# Altium footprint library 8channel.PcbLib: 84 footprints (part 6 of 6)
Each footprint in its own frame and in the unit in brackets; x right, y up, seen from the top. Pads: shape width x height; smd on the part's side, far side on the other; paste and mask are expansions set on the pad; w line width, h text height; cw(c..) or ccw(c..) is an arc to the next point about the centre after c.
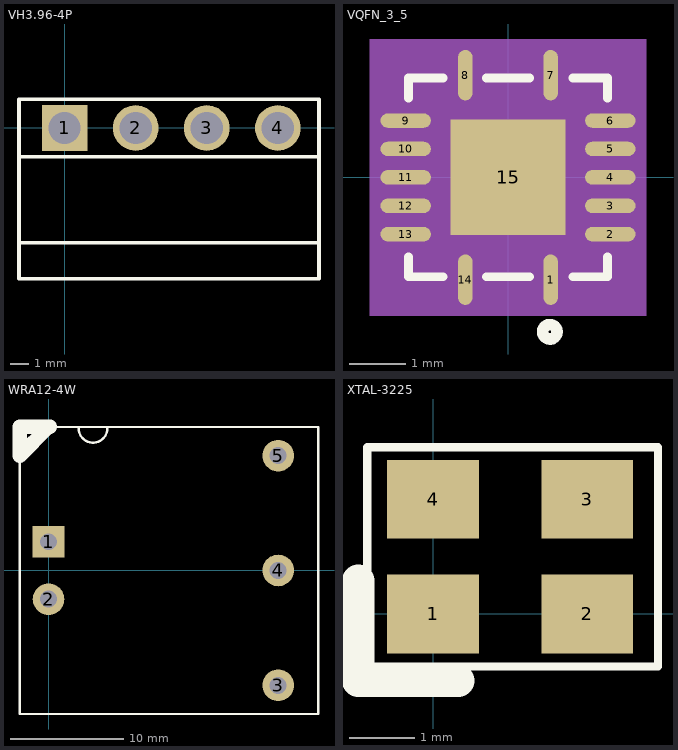
[diagram p5: the footprints below, top view; thin cyan lines are the x and y axes]

## VH3.96-4P [mm]
pads (4):
  rect 2.54x2.54 hole 1.8: 1(0,0)
  round 2.54 hole 1.8: 2(3.96,0) 3(7.92,0) 4(11.88,0)
Top Overlay:
  lines w0.203: -2.54,-6.4 14.173,-6.4 ; -2.54,-1.609 14.173,-1.609 ; -2.54,-8.4 -2.54,1.6 14.173,1.6 14.173,-8.4 -2.54,-8.4
  text ".Designator" at 3.789,0.086 h0.76
Mechanical 10:
  text "1" at -1.295,-0.432 h0.76
  text "2" at 1.245,-0.432 h0.76

## VQFN_3_5 [mil] "VQFN_3_5"
height 220
pads (15):
  oval 10x35 smd: 1(29.53,-70.87) 7(29.53,70.87) 8(-29.53,70.87) 14(-29.53,-70.87)
  oval 35x10 smd: 2(70.87,-39.37) 3(70.87,-19.69) 4(70.87,0) 5(70.87,19.69) 6(70.87,39.37) 9(-70.87,39.37) 10(-70.87,19.69) 11(-70.87,0) 12(-70.87,-19.69) 13(-70.87,-39.37)
  rect 80x80 smd: 15(0,0)
Top Overlay:
  circle w8: c29,-107 r5
  lines w6: -68.9,-55 -68.9,-68.9 -45,-68.9 ; -68.9,55 -68.9,68.9 -45,68.9 ; -15,-68.9 15,-68.9 ; -15,68.9 15,68.9 ; 45,-68.9 68.9,-68.9 68.9,-55 ; 45,68.9 68.9,68.9 68.9,55
Mechanical 10:
  text "3" at 60.87,-19.69 h30
  text "2" at 60.87,-39.37 h30
  text "15" at -20,0 h30
  text "14" at -49.53,-70.87 h30
  text "6" at 60.87,39.37 h30
  text "5" at 60.87,19.69 h30
  text "4" at 60.87,0 h30
  text "1" at 19.53,-70.87 h30
  text "9" at -80.87,39.37 h30
  text "8" at -39.53,70.87 h30
  text "11" at -90.87,0 h30
  text "12" at -90.87,-19.69 h30
  text "13" at -90.87,-39.37 h30
  text "10" at -90.87,19.69 h30
  text "7" at 19.53,70.87 h30
Mechanical 12:
  region: -95.87,-95.87 95.87,-95.87 95.87,95.87 -95.87,95.87
3D body: height 150, standoff 0, extent -95.87,-95.87 95.87,95.87

## WRA12-4W [mm]
height 11.8
pads (5):
  rect 2.8x2.8 hole 1.5: 1(0,2.54)
  round 2.8 hole 1.5: 2(0,-2.54) 3(20.32,-10.16) 4(20.32,0) 5(20.32,10.16)
Top Overlay:
  lines w0.2: 2.667,12.573 ccw(c3.937,12.573) 5.207,12.573 ; -2.54,-12.7 23.86,-12.7 23.86,12.7 -2.54,12.7 -2.54,-12.7
  lines w1.27: -0.127,12.7 -2.54,12.7 -2.54,10.16 0,12.7 0.127,12.7

## XTAL-3225 [mm] "SMT,3.2x2.5mm, pin1/3 sig;pin2/4 gnd"
height 0.8
pads (4):
  rect 1.4x1.2 smd: 1(0,0) 2(2.35,0) 3(2.35,1.75) 4(0,1.75)
Top Overlay:
  lines w0.127: -1,-0.8 -1,2.54 3.429,2.54 3.429,-0.8 -1,-0.8
  lines w0.5: -1.143,0.508 -1.143,-1.016 0.381,-1.016